# Altium schematic symbol library ICM-42370-P.SchLib: 1 symbol
Pins are listed as number, name and electrical type; pins without a type are passive.

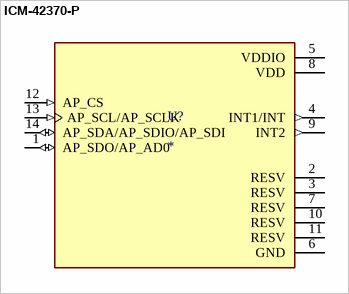
[diagram p0: symbol ICM-42370-P]

## ICM-42370-P
designator U?
Accelerometer X, Y, Z Axis 2g, 4g, 8g, 16g 14-LGA (2.5x3); MF: InvenSense; MP: ICM-42370-P; SnapEDA_Link: https://www.snapeda.com/parts/ICM-42370-P/InvenSense/view-part/?ref=snap; Package: None; Value: *; Check_prices: https://www.snapeda.com/parts/ICM-42370-P/InvenSense/view-part/?ref=eda
footprint PQFN50P250X300X81-14N
pins: 1 AP_SDO/AP_AD0 (io), 2 RESV, 3 RESV, 4 INT1/INT (out), 5 VDDIO (power), 6 GND (power), 7 RESV, 8 VDD (power), 9 INT2 (out), 10 RESV, 11 RESV, 12 AP_CS (in), 13 AP_SCL/AP_SCLK (in), 14 AP_SDA/AP_SDIO/AP_SDI (io)